# Altium schematic symbol library MOSFET.SchLib: 3 symbols
Pins are listed as number, name and electrical type; pins without a type are passive.

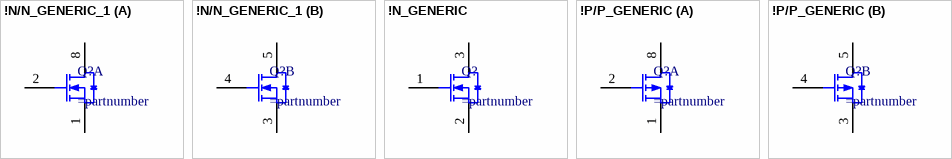
[diagram p0: symbols !N/N_GENERIC_1 to !P/P_GENERIC]

## !N/N_GENERIC_1
designator Q?
part A pins: 1 S1, 2 G1, 7 D1, 8 D1
part B pins: 3 S2, 4 G2, 5 D2, 6 D2

## !N_GENERIC
designator Q?
pins: 1 G1, 2 S, 3 D

## !P/P_GENERIC
designator Q?
part A pins: 1 S1, 2 G1, 7 D1, 8 D1
part B pins: 3 S2, 4 G2, 5 D1, 6 D1